# Altium schematic symbol library MotorPID.SchLib: 7 symbols
Pins are listed as number, name and electrical type; pins without a type are passive.

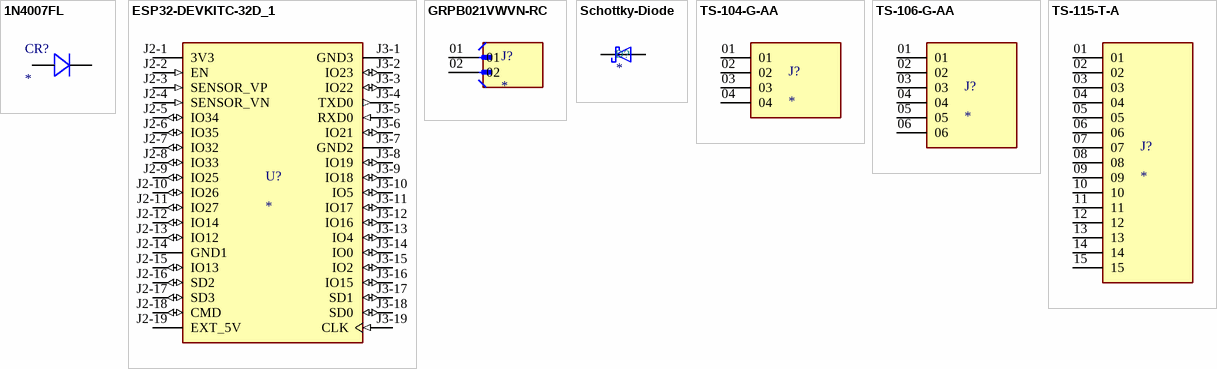
[diagram p0: symbols 1N4007FL to TS-115-T-A]

## 1N4007FL
designator CR?
No Description Available; Mfr_Name: SMC Diode Solutions
footprint CR_SOD-123FL_SME-L
pins: 1 CATHODE, 2 ANODE

## ESP32-DEVKITC-32D_1
designator U?
WiFi Development Tools (802.11) ESP32 General Development Kit, ESP32-WROOM-32D on the board; MF: Espressif Systems; MP: ESP32-DEVKITC-32D; SnapEDA_Link: https://www.snapeda.com/parts/ESP32-DEVKITC-32D/Espressif+Systems/view-part/?ref=snap; Package: None; Value: *; Check_prices: https://www.snapeda.com/parts/ESP32-DEVKITC-32D/Espressif+Systems/view-part/?ref=eda
footprint MODULE_ESP32-DEVKITC-32D
pins: J2-1 3V3 (power), J2-2 EN (in), J2-3 SENSOR_VP (in), J2-4 SENSOR_VN (in), J2-5 IO34 (io), J2-6 IO35 (io), J2-7 IO32 (io), J2-8 IO33 (io), J2-9 IO25 (io), J2-10 IO26 (io), J2-11 IO27 (io), J2-12 IO14 (io), J2-13 IO12 (io), J2-14 GND1 (power), J2-15 IO13 (io), J2-16 SD2 (io), J2-17 SD3 (io), J2-18 CMD (io), J2-19 EXT_5V (power), J3-1 GND3 (power), J3-2 IO23 (io), J3-3 IO22 (io), J3-4 TXD0 (out), J3-5 RXD0 (in), J3-6 IO21 (io), J3-7 GND2 (power), J3-8 IO19 (io), J3-9 IO18 (io), J3-10 IO5 (io), J3-11 IO17 (io), J3-12 IO16 (io), J3-13 IO4 (io), J3-14 IO0 (io), J3-15 IO2 (io), J3-16 IO15 (io), J3-17 SD1 (io), J3-18 SD0 (io), J3-19 CLK (in)

## GRPB021VWVN-RC
designator J?
MP: GRPB021VWVN-RC; Package: None; Availability: Unavailable; Price: None; Value: *
footprint SULLINS_GRPB021VWVN-RC
pins: 01, 02

## Schottky-Diode
designator D?
ki_keywords: Schottky; ki_description: Schottky Diode; Datasheet: https://diotec.com/de/produktliste/SBD.html
footprint DO-214AC_SMA
pins: A, K

## TS-104-G-AA
designator J?
MF: Samtec Inc.; MP: TS-104-G-AA; Price: None; Package: None; Availability: Unavailable; Value: *
footprint SAMTEC_TS-104-G-AA
pins: 01, 02, 03, 04

## TS-106-G-AA
designator J?
Conn Unshrouded Header HDR 6 POS 2.54mm Solder ST Thru-Hole Tube; MF: Samtec; MP: TS-106-G-AA; Package: None; Check_prices: https://www.snapeda.com/parts/TS-106-G-AA/Samtec/view-part/?ref=eda; Value: *; Price: None; Purchase-URL: https://pricing.snapeda.com/search/part/TS-106-G-AA/?ref=eda; SnapEDA_Link: https://www.snapeda.com/parts/TS-106-G-AA/Samtec/view-part/?ref=snap; Availability: In Stock
footprint SAMTEC_TS-106-G-AA
pins: 01, 02, 03, 04, 05, 06

## TS-115-T-A
designator J?
MF: Samtec Inc.; MP: TS-115-T-A; Package: None; Price: None; Value: *; Availability: Unavailable
footprint SAMTEC_TS-115-T-A
pins: 01, 02, 03, 04, 05, 06, 07, 08, 09, 10, 11, 12, 13, 14, 15